# Altium integrated library Linear Technology Power Management Switching Regulator LTC1174-LTC3901.IntLib: 2647 symbols (part 251 of 364)
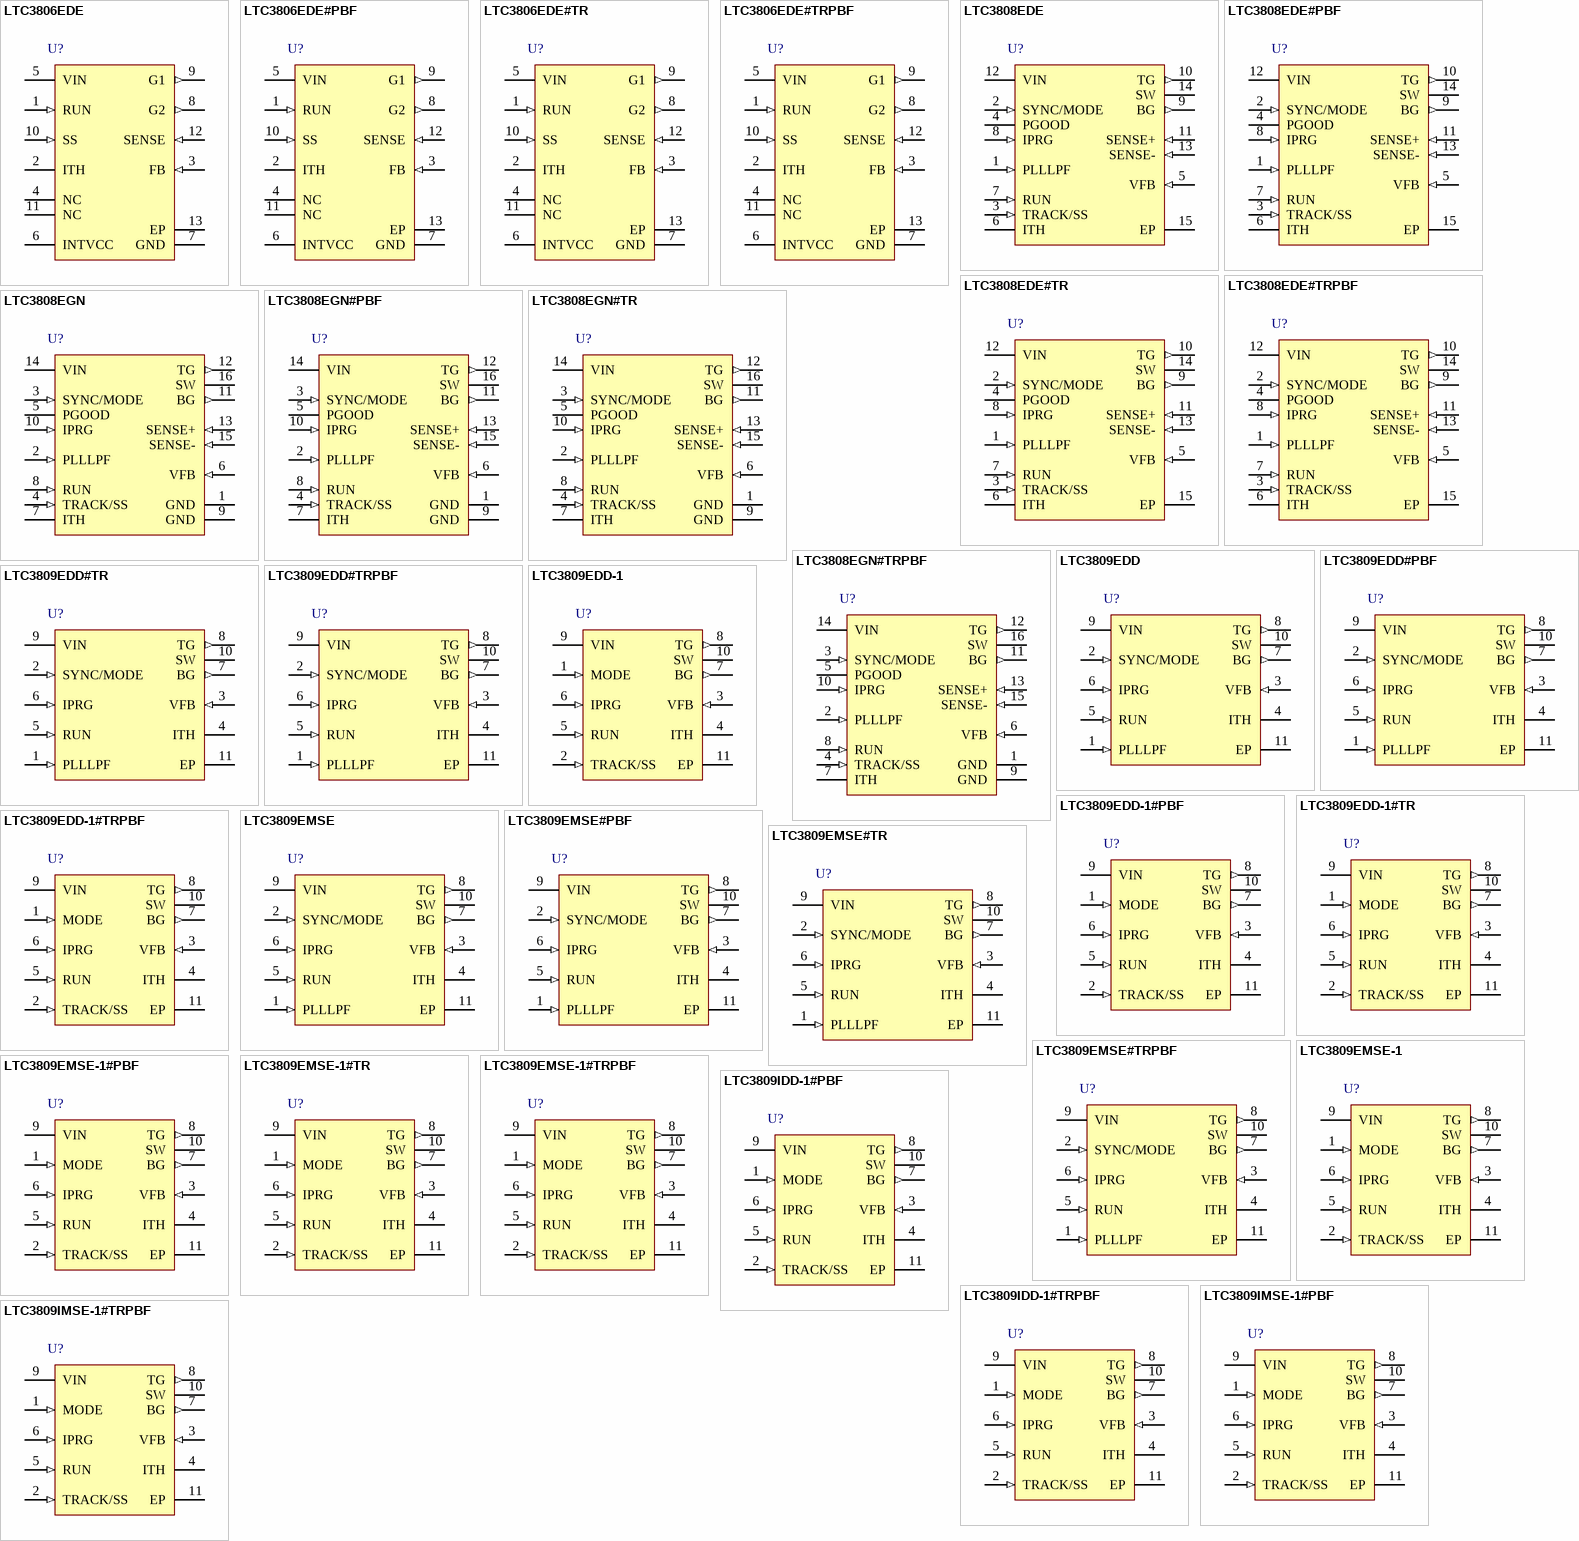
[diagram p344: symbols LTC3806EDE to LTC3809IMSE-1#TRPBF]

## LTC3809EMSE#PBF
designator U?
No Rsense, Low EMI, Synchronous DC/DC Controller, 10-pin SOP (MSE-10-EDP), -40 to 85 degC, Pb-Free; Manufacturer: Linear Technology; PartNumber: LTC3809EMSE#PBF; Frequency Sync Range: 250kHz - 750kHz; Number of Outputs: 1; DatasheetVersion: Rev. C; PackageVersion: Rev. C, 08/2009; PackageReference: MSE-10; PackageDescription: 10-Pin Plastic MSOP, Exposed Die Pad, Body 3 x 3 mm, Pitch 0.5 mm; Supplier 1: Digi-Key; Supplier Part Number 1: LTC3809EMSE#PBF-ND; Supplier 2: Newark; Supplier Part Number 2: 56M8489; RoHS: TRUE; Mounting Technology: Surface Mount; ComponentLink1Description: Manufacturer URL; ComponentLink1URL: http://www.linear.com/; ComponentLink2Description: Datasheet; ComponentLink2URL: http://cds.linear.com/docs/en/datasheet/3809fc.pdf; ComponentLink3Description: Package Specification; ComponentLink3URL: http://cds.linear.com/docs/en/datasheet/3481fc.pdf
footprint LT-MSE-10-EDP-2060x1830TP_N (SOP, 10-Leads, Body 3.1x3.1mm, Pitch 0.5mm, Thermal Pad 2.17x1.94mm, IPC Medium Density)
footprint LT-MSE-10-EDP-2060x1830TP_L (SOP, 10-Leads, Body 3.1x3.1mm, Pitch 0.5mm, Thermal Pad 2.17x1.94mm, IPC High Density)
footprint LT-MSE-10-EDP-2060x1830TP_M (SOP, 10-Leads, Body 3.1x3.1mm, Pitch 0.5mm, Thermal Pad 2.17x1.94mm, IPC Low Density)
pins: 1 PLLLPF (in) "Frequency Set/PLL Lowpass Filter. When synchronizing to an external clock, this pin serves as the lowpass filter point for the phase-locked loop. Normally, a series RC is connected between this pin and ground. When not (See Datasheet)", 2 SYNC/MODE (in), 3 VFB (in) "Feedback Pin. This pin receives the remotely sensed feedback voltage for the controller from an external resistor divider across the output.", 4 ITH "Current Threshold and Error Amplifier Compensation Point. Nominal operating range on this pin is from 0.7V to 2V. The voltage on this pin determines the threshold of the main current comparator.", 5 RUN (in) "Run Control Input. Forcing this pin below 1.1V shuts down the chip. Driving this pin to VIN or releasing this pin enables the chip to start-up with the internal soft-start.", 6 IPRG (in) "Three-State Pin to Select Maximum Peak Sense Voltage Threshold. This pin selects the maximum allowed voltage drop between the VIN and SW pins (i.e., the maximum allowed drop across the external P-channel MOSFET). Tie to VIN, (See Datasheet)", 7 BG (out) "Bottom (NMOS) Gate Drive Output. This pin drives the gate of the external N-channel MOSFET. This pin has an output swing from PGND to VIN.", 8 TG (out) "Top (PMOS) Gate Drive Output. This pin drives the gate of the external P-channel MOSFET. This pin has an output swing from PGND to VIN.", 9 VIN (power) "Chip Signal Power Supply. This pin powers the entire chip, the gate drivers and serves as the positive input to the differential current comparator.", 10 SW "Switch Node Connection to Inductor. This pin is also the negative input to the differential current comparator and an input to the reverse current comparator. Normally this pin is connected to the drain of the external (See Datasheet)", 11 EP (power) "Exposed Pad. The Exposed Pad is ground and must be soldered to the PCB ground for electrical contact and optimum thermal performance."

## LTC3809EMSE#TR
designator U?
No Rsense, Low EMI, Synchronous DC/DC Controller, 10-pin SOP (MSE-10-EDP), -40 to 85 degC, Tape and Reel; Manufacturer: Linear Technology; PartNumber: LTC3809EMSE#TR; Frequency Sync Range: 250kHz - 750kHz; Number of Outputs: 1; DatasheetVersion: Rev. C; PackageVersion: Rev. C, 08/2009; PackageReference: MSE-10; PackageDescription: 10-Pin Plastic MSOP, Exposed Die Pad, Body 3 x 3 mm, Pitch 0.5 mm; Supplier 1: Digi-Key; Supplier Part Number 1: LTC3809EMSE#TR-ND; Packing: Tape and Reel; RoHS: FALSE; Mounting Technology: Surface Mount; ComponentLink1Description: Manufacturer URL; ComponentLink1URL: http://www.linear.com/; ComponentLink2Description: Datasheet; ComponentLink2URL: http://cds.linear.com/docs/en/datasheet/3809fc.pdf; ComponentLink3Description: Package Specification; ComponentLink3URL: http://cds.linear.com/docs/en/datasheet/3481fc.pdf
footprint LT-MSE-10-EDP-2060x1830TP_N (SOP, 10-Leads, Body 3.1x3.1mm, Pitch 0.5mm, Thermal Pad 2.17x1.94mm, IPC Medium Density)
footprint LT-MSE-10-EDP-2060x1830TP_L (SOP, 10-Leads, Body 3.1x3.1mm, Pitch 0.5mm, Thermal Pad 2.17x1.94mm, IPC High Density)
footprint LT-MSE-10-EDP-2060x1830TP_M (SOP, 10-Leads, Body 3.1x3.1mm, Pitch 0.5mm, Thermal Pad 2.17x1.94mm, IPC Low Density)
pins: 1 PLLLPF (in) "Frequency Set/PLL Lowpass Filter. When synchronizing to an external clock, this pin serves as the lowpass filter point for the phase-locked loop. Normally, a series RC is connected between this pin and ground. When not (See Datasheet)", 2 SYNC/MODE (in), 3 VFB (in) "Feedback Pin. This pin receives the remotely sensed feedback voltage for the controller from an external resistor divider across the output.", 4 ITH "Current Threshold and Error Amplifier Compensation Point. Nominal operating range on this pin is from 0.7V to 2V. The voltage on this pin determines the threshold of the main current comparator.", 5 RUN (in) "Run Control Input. Forcing this pin below 1.1V shuts down the chip. Driving this pin to VIN or releasing this pin enables the chip to start-up with the internal soft-start.", 6 IPRG (in) "Three-State Pin to Select Maximum Peak Sense Voltage Threshold. This pin selects the maximum allowed voltage drop between the VIN and SW pins (i.e., the maximum allowed drop across the external P-channel MOSFET). Tie to VIN, (See Datasheet)", 7 BG (out) "Bottom (NMOS) Gate Drive Output. This pin drives the gate of the external N-channel MOSFET. This pin has an output swing from PGND to VIN.", 8 TG (out) "Top (PMOS) Gate Drive Output. This pin drives the gate of the external P-channel MOSFET. This pin has an output swing from PGND to VIN.", 9 VIN (power) "Chip Signal Power Supply. This pin powers the entire chip, the gate drivers and serves as the positive input to the differential current comparator.", 10 SW "Switch Node Connection to Inductor. This pin is also the negative input to the differential current comparator and an input to the reverse current comparator. Normally this pin is connected to the drain of the external (See Datasheet)", 11 EP (power) "Exposed Pad. The Exposed Pad is ground and must be soldered to the PCB ground for electrical contact and optimum thermal performance."

## LTC3809EMSE#TRPBF
designator U?
No Rsense, Low EMI, Synchronous DC/DC Controller, 10-pin SOP (MSE-10-EDP), -40 to 85 degC, Pb-Free, Tape and Reel; Manufacturer: Linear Technology; PartNumber: LTC3809EMSE#TRPBF; Frequency Sync Range: 250kHz - 750kHz; Number of Outputs: 1; DatasheetVersion: Rev. C; PackageVersion: Rev. C, 08/2009; PackageReference: MSE-10; PackageDescription: 10-Pin Plastic MSOP, Exposed Die Pad, Body 3 x 3 mm, Pitch 0.5 mm; Supplier 1: Digi-Key; Supplier Part Number 1: LTC3809EMSE#TRPBF-ND; Packing: Tape and Reel; RoHS: TRUE; Mounting Technology: Surface Mount; ComponentLink1Description: Manufacturer URL; ComponentLink1URL: http://www.linear.com/; ComponentLink2Description: Datasheet; ComponentLink2URL: http://cds.linear.com/docs/en/datasheet/3809fc.pdf; ComponentLink3Description: Package Specification; ComponentLink3URL: http://cds.linear.com/docs/en/datasheet/3481fc.pdf
footprint LT-MSE-10-EDP-2060x1830TP_N (SOP, 10-Leads, Body 3.1x3.1mm, Pitch 0.5mm, Thermal Pad 2.17x1.94mm, IPC Medium Density)
footprint LT-MSE-10-EDP-2060x1830TP_L (SOP, 10-Leads, Body 3.1x3.1mm, Pitch 0.5mm, Thermal Pad 2.17x1.94mm, IPC High Density)
footprint LT-MSE-10-EDP-2060x1830TP_M (SOP, 10-Leads, Body 3.1x3.1mm, Pitch 0.5mm, Thermal Pad 2.17x1.94mm, IPC Low Density)
pins: 1 PLLLPF (in) "Frequency Set/PLL Lowpass Filter. When synchronizing to an external clock, this pin serves as the lowpass filter point for the phase-locked loop. Normally, a series RC is connected between this pin and ground. When not (See Datasheet)", 2 SYNC/MODE (in), 3 VFB (in) "Feedback Pin. This pin receives the remotely sensed feedback voltage for the controller from an external resistor divider across the output.", 4 ITH "Current Threshold and Error Amplifier Compensation Point. Nominal operating range on this pin is from 0.7V to 2V. The voltage on this pin determines the threshold of the main current comparator.", 5 RUN (in) "Run Control Input. Forcing this pin below 1.1V shuts down the chip. Driving this pin to VIN or releasing this pin enables the chip to start-up with the internal soft-start.", 6 IPRG (in) "Three-State Pin to Select Maximum Peak Sense Voltage Threshold. This pin selects the maximum allowed voltage drop between the VIN and SW pins (i.e., the maximum allowed drop across the external P-channel MOSFET). Tie to VIN, (See Datasheet)", 7 BG (out) "Bottom (NMOS) Gate Drive Output. This pin drives the gate of the external N-channel MOSFET. This pin has an output swing from PGND to VIN.", 8 TG (out) "Top (PMOS) Gate Drive Output. This pin drives the gate of the external P-channel MOSFET. This pin has an output swing from PGND to VIN.", 9 VIN (power) "Chip Signal Power Supply. This pin powers the entire chip, the gate drivers and serves as the positive input to the differential current comparator.", 10 SW "Switch Node Connection to Inductor. This pin is also the negative input to the differential current comparator and an input to the reverse current comparator. Normally this pin is connected to the drain of the external (See Datasheet)", 11 EP (power) "Exposed Pad. The Exposed Pad is ground and must be soldered to the PCB ground for electrical contact and optimum thermal performance."